# Altium schematic symbol library IC_Isolated_Gate_Drivers.SchLib: 1 symbol
Pins are listed as number, name and electrical type; pins without a type are passive.

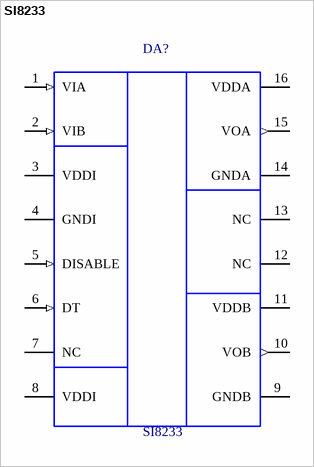
[diagram p0: symbol SI8233]

## SI8233
designator DA?
ComponentDescription: SI8233
footprint 16-SOIC (SOIC, 16-Leads, Body 9,90x3,90mm, Pitch 1,27mm, IPC Medium Density)
pins: 1 VIA (in) "Non-inverting logic input terminal for Driver A.", 2 VIB (in) "Non-inverting logic input terminal for Driver B.", 3 VDDI (power) "Input-side power supply terminal; connect to a source of 4.5 to 5.5 V.", 4 GNDI (power) "Input-side ground terminal.", 5 DISABLE (in) "Device Disable. When high, this input unconditionally drives outputs VOA, VOB LOW. It is strongly recommended that this input be connected to external logic level to avoid erroneous operation due to capacitive noise coupling.", 6 DT (in) "Dead time programming input. The value of the resistor connected from DT to ground sets the dead time between output transitions of VOA and VOB. Defaults to 1 ns dead time when connected to VDDI or left open (see "3.8. (See Datasheet)", 7 NC "No connection.", 8 VDDI (power) "Input-side power supply terminal; connect to a source of 4.5 to 5.5 V.", 9 GNDB (power) "Ground terminal for Driver B.", 10 VOB (out) "Driver B output", 11 VDDB (power) "Driver B power supply voltage terminal; connect to a source of 6.5 to 24 V.", 12 NC "No connection.", 13 NC "No connection.", 14 GNDA (power) "Ground terminal for Driver A.", 15 VOA (out) "Driver A output", 16 VDDA (power) "Driver A power supply voltage terminal; connect to a source of 6.5 to 24 V."